# EAGLE library part ACT4088 (library ACT4088)
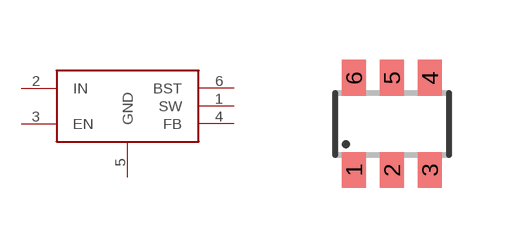
[diagram p0: symbol with the pads of SOT23-6; footprint SOT23-6]

Designator prefix -

## ACT4088  [SOT23-6]
1  SW
2  IN
3  EN
4  FB
5  GND
6  BST

## Footprint SOT23-6 (pad centres in mm)
Small Outline Transistor 6 lead
smd 0.6 x 0.9: 1 -0.95,-1.15; 2 0,-1.15; 3 0.95,-1.15; 4 0.95,1.15; 5 0,1.15; 6 -0.95,1.15